# EAGLE library part К140УД6 (library yri)
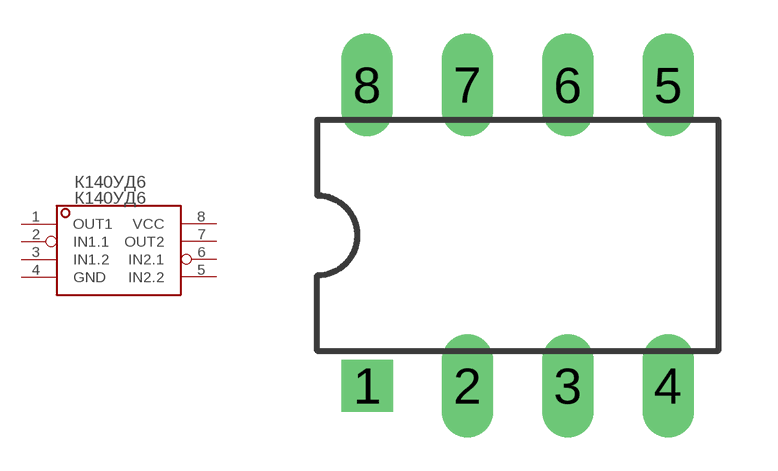
[diagram p6: symbol with the pads of DIL08; footprint DIL08]

Designator prefix U

## К140УД6  [DIL08]
1  OUT1
2  IN1.1
3  IN1.2
4  GND
5  IN2.2
6  IN2.1
7  OUT2
8  VCC

## Footprint DIL08 (pad centres in mm)
Dual In Line Package
drill 0.8 square: 1 -3.81,-3.81
drill 0.8 long: 2 -1.27,-3.81; 3 1.27,-3.81; 4 3.81,-3.81; 5 3.81,3.81; 6 1.27,3.81; 7 -1.27,3.81; 8 -3.81,3.81